# EAGLE library part D9-1C (library 0DIODE)
8 DIODES SIL, common cathode
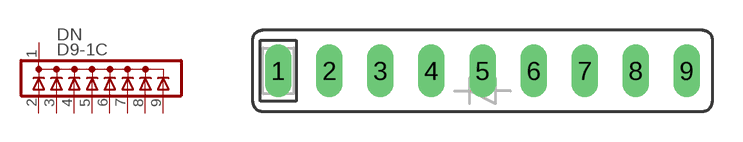
[diagram p3: symbol with the pads of SIL09C; footprint SIL09C]

Designator prefix DN

## D9-1C  [SIL09C]
1  C  pas
2  2  pas
3  3  pas
4  4  pas
5  5  pas
6  6  pas
7  7  pas
8  8  pas
9  9  pas

## Footprint SIL09C (pad centres in mm)
8 DIODES single in line 8 diodes with common cathode
drill 0.813 long: 1 -10.16,0; 2 -7.62,0; 3 -5.08,0; 4 -2.54,0; 5 0,0; 6 2.54,0; 7 5.08,0; 8 7.62,0; 9 10.16,0